# EAGLE library part CH9121_MODULE (library ali_modules)
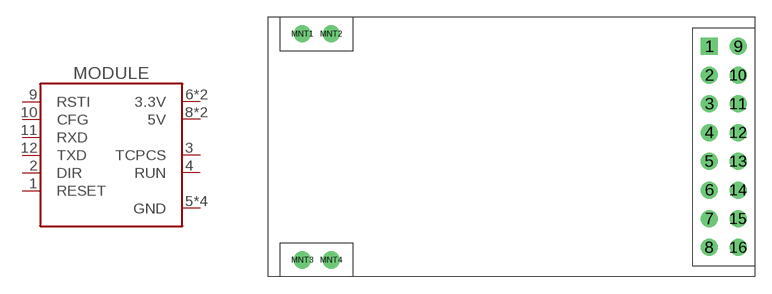
[diagram p24: symbol with the pads of CH9121_MODULE; footprint CH9121_MODULE]

Designator prefix MODULE

## CH9121_MODULE  [CH9121_MODULE]
1  RESET
2  DIR
3  TCPCS
4  RUN
5  GND
6  3.3V
7  GND
8  5V
9  RSTI
10  CFG
11  RXD
12  TXD
13  GND
14  3.3V
15  GND
16  5V

## Footprint CH9121_MODULE (pad centres in mm)
drill 1 pad 1.5 square: 1 17.5,8.89
drill 1 pad 1.5: 2 17.5,6.35; 3 17.5,3.81; 4 17.5,1.27; 5 17.5,-1.27; 6 17.5,-3.81; 7 17.5,-6.35; 8 17.5,-8.89; 9 20.04,8.89; 10 20.04,6.35; 11 20.04,3.81; 12 20.04,1.27; 13 20.04,-1.27; 14 20.04,-3.81; 15 20.04,-6.35; 16 20.04,-8.89; MNT1 -18.5,10; MNT2 -15.96,10; MNT3 -18.5,-10; MNT4 -15.96,-10